# Altium integrated library TPS62933PDRLR.IntLib: 1 symbol
Pins are listed as number, name and electrical type; pins without a type are passive.

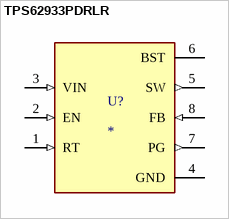
[diagram p0: symbol TPS62933PDRLR]

## TPS62933PDRLR
designator U?
MP: TPS62933PDRLR; Package: None; Price: None; Value: *; Availability: Unavailable
footprint SOFL50P160X60-8N
pins: 1 RT (in), 2 EN (in), 3 VIN (in), 4 GND (power), 5 SW (out), 6 BST (power), 7 PG (out), 8 FB (in)